# Altium schematic symbol library SCH - MCU - ATMEGA - MICROCHIP ATMEGA1284-PU PDIP40.SchLib: 1 symbol
Pins are listed as number, name and electrical type; pins without a type are passive.

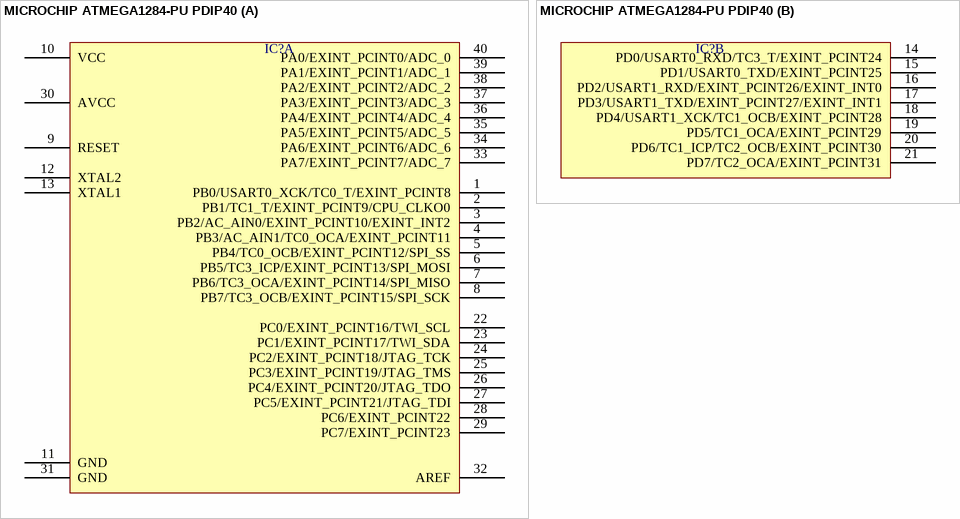
[diagram p0: symbol MICROCHIP ATMEGA1284-PU PDIP40]

## MICROCHIP ATMEGA1284-PU PDIP40
designator IC?  (value not drawn)
part A pins: 1 PB0/USART0_XCK/TC0_T/EXINT_PCINT8, 2 PB1/TC1_T/EXINT_PCINT9/CPU_CLKO0, 3 PB2/AC_AIN0/EXINT_PCINT10/EXINT_INT2, 4 PB3/AC_AIN1/TC0_OCA/EXINT_PCINT11, 5 PB4/TC0_OCB/EXINT_PCINT12/SPI_SS, 6 PB5/TC3_ICP/EXINT_PCINT13/SPI_MOSI, 7 PB6/TC3_OCA/EXINT_PCINT14/SPI_MISO, 8 PB7/TC3_OCB/EXINT_PCINT15/SPI_SCK, 9 RESET, 10 VCC, 11 GND, 12 XTAL2, 13 XTAL1, 22 PC0/EXINT_PCINT16/TWI_SCL, 23 PC1/EXINT_PCINT17/TWI_SDA, 24 PC2/EXINT_PCINT18/JTAG_TCK, 25 PC3/EXINT_PCINT19/JTAG_TMS, 26 PC4/EXINT_PCINT20/JTAG_TDO, 27 PC5/EXINT_PCINT21/JTAG_TDI, 28 PC6/EXINT_PCINT22, 29 PC7/EXINT_PCINT23, 30 AVCC, 31 GND, 32 AREF, 33 PA7/EXINT_PCINT7/ADC_7, 34 PA6/EXINT_PCINT6/ADC_6, 35 PA5/EXINT_PCINT5/ADC_5, 36 PA4/EXINT_PCINT4/ADC_4, 37 PA3/EXINT_PCINT3/ADC_3, 38 PA2/EXINT_PCINT2/ADC_2, 39 PA1/EXINT_PCINT1/ADC_1, 40 PA0/EXINT_PCINT0/ADC_0
part B pins: 14 PD0/USART0_RXD/TC3_T/EXINT_PCINT24, 15 PD1/USART0_TXD/EXINT_PCINT25, 16 PD2/USART1_RXD/EXINT_PCINT26/EXINT_INT0, 17 PD3/USART1_TXD/EXINT_PCINT27/EXINT_INT1, 18 PD4/USART1_XCK/TC1_OCB/EXINT_PCINT28, 19 PD5/TC1_OCA/EXINT_PCINT29, 20 PD6/TC1_ICP/TC2_OCB/EXINT_PCINT30, 21 PD7/TC2_OCA/EXINT_PCINT31